# Altium integrated library usb_hinrose.IntLib: 9 symbols
Pins are listed as number, name and electrical type; pins without a type are passive.

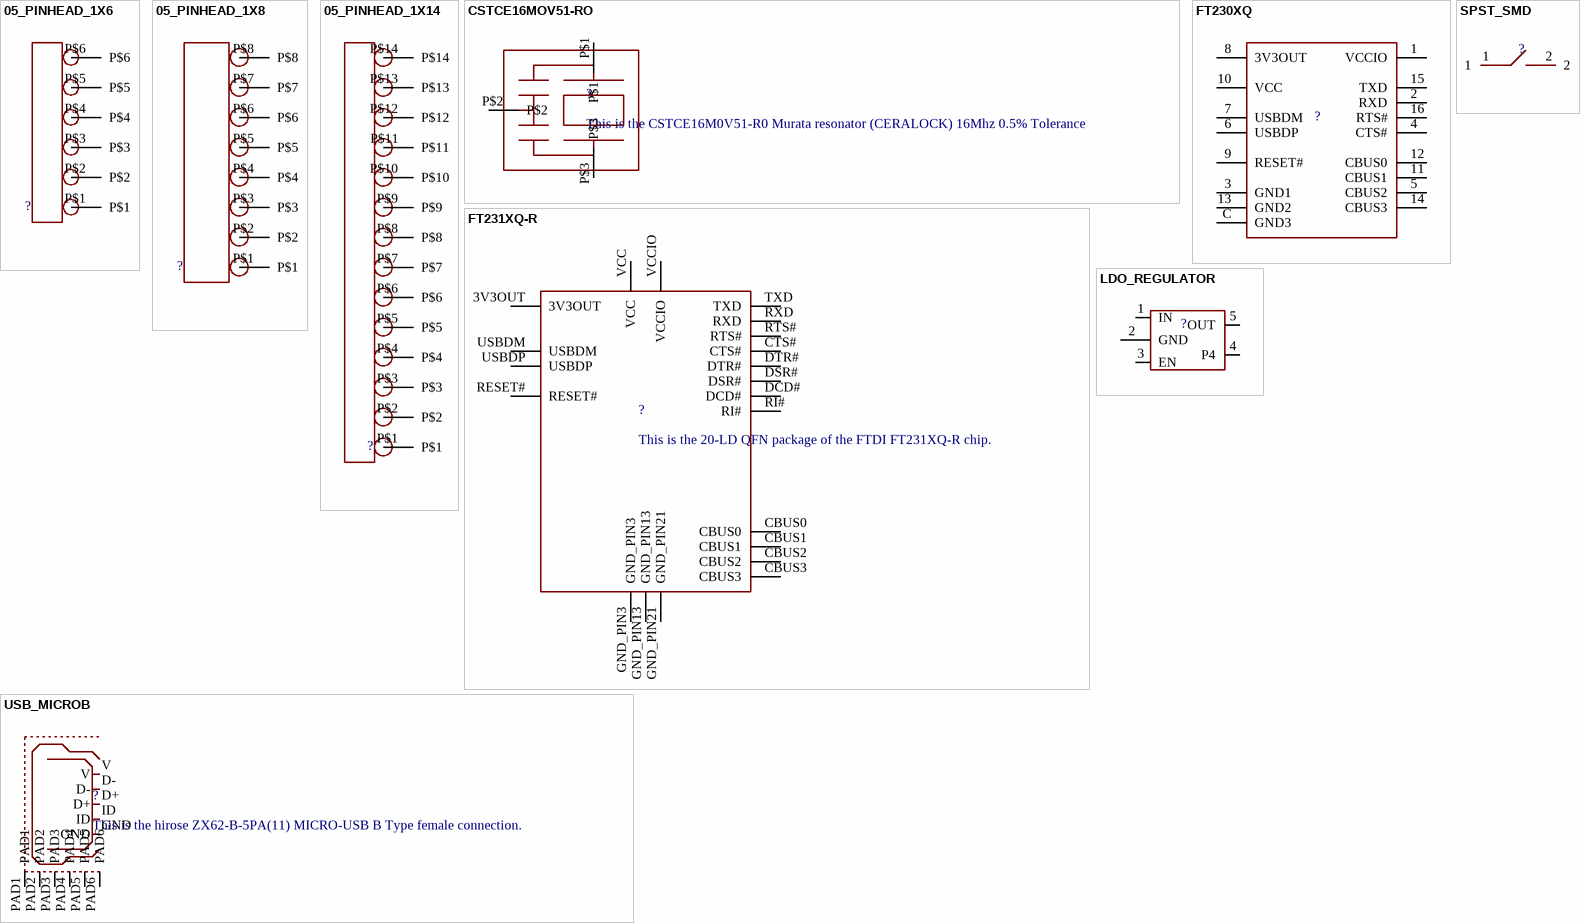
[diagram p0: symbols 05_PINHEAD_1X6 to USB_MICROB]

## 05_PINHEAD_1X6
designator ?
footprint 05_PINHEAD_1X6_PACKAGE
pins: P$1, P$2, P$3, P$4, P$5, P$6

## 05_PINHEAD_1X8
designator ?
footprint 05_PINHEAD_1X8_PACKAGE
pins: P$1, P$2, P$3, P$4, P$5, P$6, P$7, P$8

## 05_PINHEAD_1X14
designator ?
footprint 05_PINHEAD_1X14_PACKAGE
pins: P$1, P$2, P$3, P$4, P$5, P$6, P$7, P$8, P$9, P$10, P$11, P$12, P$13, P$14

## CSTCE16MOV51-RO
designator ?, comment This is the CSTCE16M0V51-R0 Murata resonator (CERALOCK) 16Mhz 0.5% Tolerance
footprint CSTCE16M0V51-RO_PACKAGE
pins: P$1, P$2, P$3

## FT230XQ
designator ?
footprint FT230XQ
pins: 1 VCCIO, 2 RXD, 3 GND1, 4 CTS#, 5 CBUS2, 6 USBDP, 7 USBDM, 8 3V3OUT, 9 RESET#, 10 VCC, 11 CBUS1, 12 CBUS0, 13 GND2, 14 CBUS3, 15 TXD, 16 RTS#, C GND3

## FT231XQ-R
designator ?, comment This is the 20-LD QFN package of the FTDI FT231XQ-R chip.
footprint FTDI_FT231XQ-R_PACKAGE
pins: 3V3OUT, CBUS0, CBUS1, CBUS2, CBUS3, CTS#, DCD#, DSR#, DTR#, GND_PIN3, GND_PIN13, GND_PIN21, RESET#, RI#, RTS#, RXD, TXD, USBDM, USBDP, VCC, VCCIO

## LDO_REGULATOR
designator ?
footprint LDO_REGULATOR
pins: 1 IN, 2 GND, 3 EN, 4 P4, 5 OUT

## SPST_SMD
designator ?
footprint SPST_SMD
pins: 1, 2

## USB_MICROB
designator ?, comment This is the hirose ZX62-B-5PA(11) MICRO-USB B Type female connection.
footprint USB_MICROB_PACKAGE
pins: D+, D-, GND, ID, PAD1, PAD2, PAD3, PAD4, PAD5, PAD6, V